# Altium schematic symbol library EVMOMAPL137_Orcad_revg.SCHLIB: 126 symbols
Pins are listed as number, name and electrical type; pins without a type are passive.

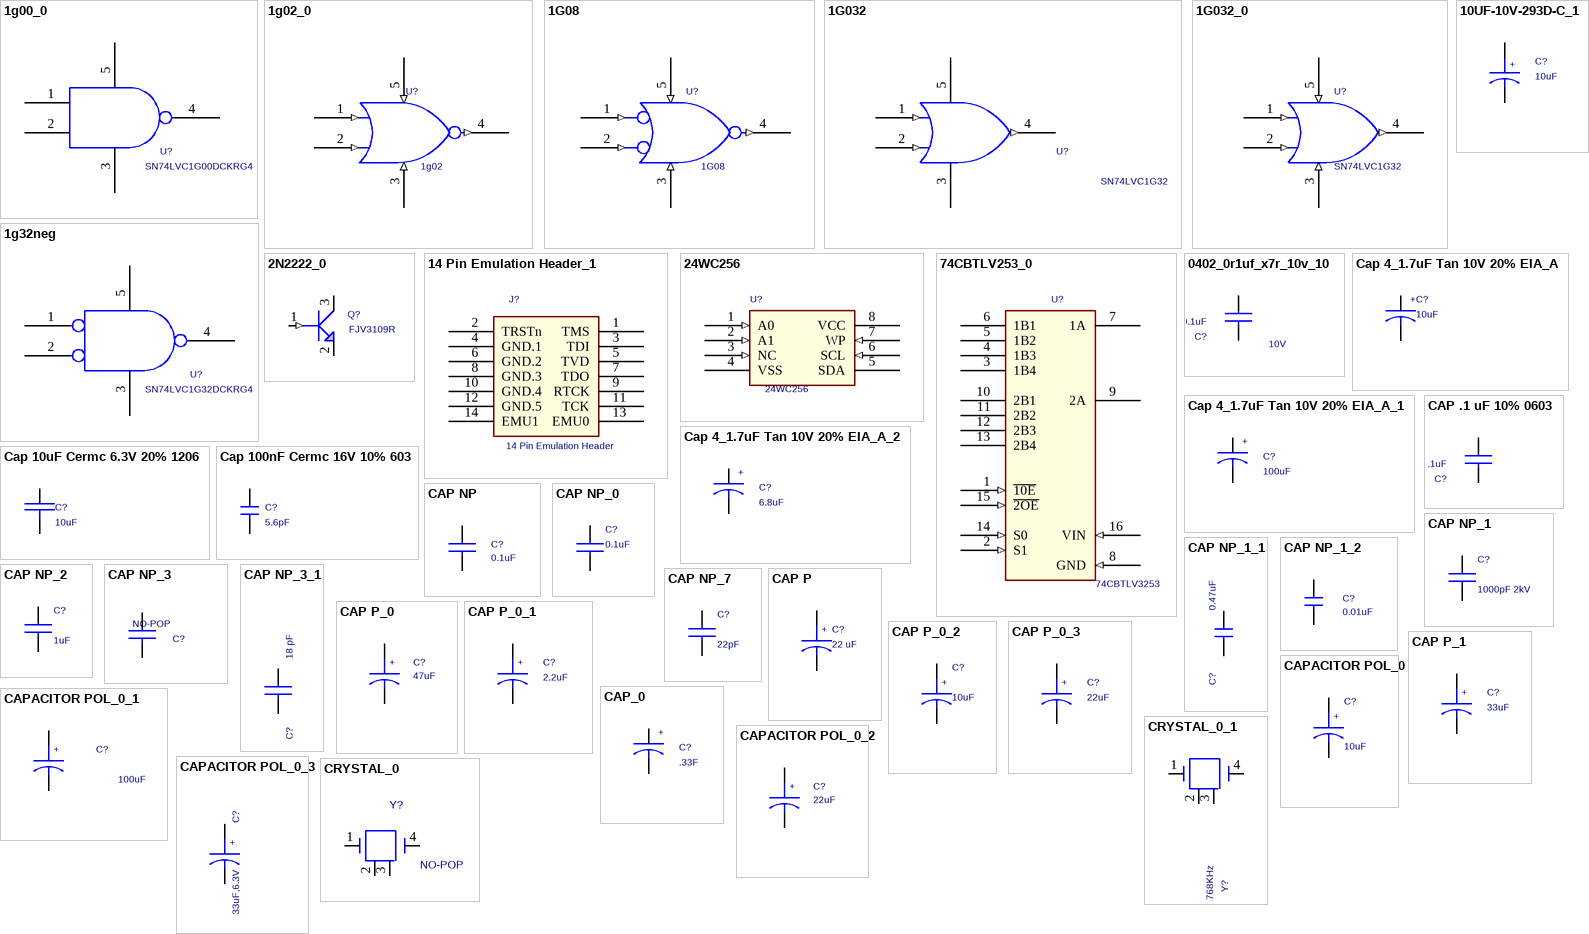
[diagram p0: symbols 1g00_0 to CRYSTAL_0_1]

## 1g00_0
designator U?, comment SN74LVC1G00DCKRG4
Part #: 101057-0001R
footprint dck-5
pins: 1 A, 2 B, 3 GND, 4 Y, 5 VCC

## 1g02_0
designator U?, comment 1g02
Part #: 101057-0002R
footprint dck-5
pins: 1 B (in), 2 A (in), 3 GND (in), 4 Y (out), 5 VCC (in)

## 1G08
designator U?
Part #: 101057-0008R
footprint SO5
footprint dck-5
pins: 1 B (in), 2 A (in), 3 GND (in), 4 Y (out), 5 VCC (in)

## 1G032
designator U?, comment SN74LVC1G32
Part #: 101057-0032R
footprint SO5
footprint dck-5
pins: 1 B (in), 2 A (in), 3 GND (power), 4 Y (out), 5 VCC (power)

## 1G032_0
designator U?, comment SN74LVC1G32
Part #: 101057-0032R
footprint SO5
footprint dck-5
pins: 1 B (in), 2 A (in), 3 GND (in), 4 Y (out), 5 VCC (in)

## 1g32neg
designator U?, comment SN74LVC1G32DCKRG4
Part #: 101057-0032R
footprint dck-5
pins: 1 A, 2 B, 3 GND, 4 Y, 5 VCC

## 2N2222_0
designator Q?, comment FJV3109R
Part #: 102109-0001R; SD PCB Footprint: SOT23-NPN
footprint sot23-28x44
pins: 1 BASE (in), 2 EMITTER, 3 COLLECTOR

## 10UF-10V-293D-C_1
designator C?, comment 10uF
Part #: 101003-0101R; CLASS: DISCRETE; DIS-V: RS; REF DIS-V: 100-2221; MAN: VISHAY-SPRAGUE; DES: 10UF,10V, Size B; PN: 293D106X9016C; RAT: 10V; PUR: SUB; TOL: 10%; TN: 208-0037-000
footprint SM-PCAP-3216
footprint c1206-40x70-POL
pins: 1 P, 2 M
text: +

## 14 Pin Emulation Header_1
designator J?, comment 14 Pin Emulation Header
Part #: 100116-0007R
footprint JUMP2X7-6040
pins: 1 TMS, 2 TRSTn, 3 TDI, 4 GND.1 (power), 5 TVD, 6 GND.2 (power), 7 TDO, 8 GND.3 (power), 9 RTCK, 10 GND.4 (power), 11 TCK, 12 GND.5 (power), 13 EMU0, 14 EMU1

## 24WC256
designator U?
256K-Bit I 2 C Serial CMOS EEPROM; Part #: 102235-0001R; SD PCB Footprint: SO8W
footprint SOIC
footprint so8-25x75-295
pins: 1 A0 (in), 2 A1 (in), 3 NC (in), 4 VSS, 5 SDA, 6 SCL (in), 7 WP (in), 8 VCC

## 74CBTLV253_0
designator U?, comment 74CBTLV3253
Part #: 101433-0001R
footprint tssop16-14x70
pins: 1 ~{10E} (in), 2 S1 (in), 3 1B4, 4 1B3, 5 1B2, 6 1B1, 7 1A, 8 GND (in), 9 2A, 10 2B1, 11 2B2, 12 2B3, 13 2B4, 14 S0 (in), 15 ~{2OE} (in), 16 VIN (in)

## 0402_0r1uf_x7r_10v_10
designator C?, comment 0.1uF  Voltage: 10V
Part #: 101587-1100R; TN: 207-0068-000; Desc: CAP, CER, X7R, 0402, 10V, 10%, 0.1uF
footprint SM-CAP-0402
footprint c402-25
pins: 1, 2

## Cap 4_1.7uF Tan 10V 20% EIA_A
designator C?, comment 10uF
4.7uF Capacitor, Tantalum, 10V, 20%; NCPartnumber: EIA_A; Mfr: Panasonic; PartName: Cap 4.7uF Tan 10V 20% EIA_A; MfrNum: ECS-T1AY475R; Part #: 101003-0101R; Cost10K: 0.257; Cost100: 0.418; Vendor: xxxx; VendorNum: PCS2475CT-ND; SD PCB Footprint: EIA1206
footprint EIA-A
footprint c1206-40x70-POL
pins: 1, 2
text: +

## Cap 4_1.7uF Tan 10V 20% EIA_A_1
designator C?, comment 100uF
4.7uF Capacitor, Tantalum, 10V, 20%; NCPartnumber: EIA_A; Mfr: Panasonic; PartName: Cap 4.7uF Tan 10V 20% EIA_A; MfrNum: ECS-T1AY475R; Part #: 101608-0102R; Cost10K: 0.257; Cost100: 0.418; Vendor: xxxx; VendorNum: PCS2475CT-ND; SD PCB Footprint: EIA1206
footprint EIA-A
footprint c7343-84x118
pins: 1, 2
text: +

## Cap 4_1.7uF Tan 10V 20% EIA_A_2
designator C?, comment 6.8uF
4.7uF Capacitor, Tantalum, 10V, 20%; NCPartnumber: EIA_A; Mfr: Panasonic; PartName: Cap 4.7uF Tan 10V 20% EIA_A; MfrNum: ECS-T1AY475R; Part #: 102359-0680R; Cost10K: 0.257; Cost100: 0.418; Vendor: xxxx; VendorNum: PCS2475CT-ND; SD PCB Footprint: EIA1206
footprint EIA-A
footprint c1206-40x70p
pins: 1, 2
text: +

## Cap 10uF Cermc 6.3V 20% 1206
designator C?, comment 10uF
10uF Capacitor, Ceramic, 6.3V, 20%, 1206; Part #: 101003-0101R; PartName: Cap 10uF Cermc 6.3V 20% 1206; MfrNum: JMK316BJ106ML; Mfr: TAIYO YUDEN; VendorNum: 587-1942-1-ND; Vendor: Digikey; Cost100: 0.26; Cost10K: 0.056; SD PCB Footprint: EIA1206; TI Footprint: c1206-40x70
footprint C1206-40X70
footprint c1206-40x70-POL
pins: 1, 2

## Cap 100nF Cermc 16V 10% 603
designator C?, comment 5.6pF
3pF Capacitor, Ceramic, 16V, 10%, 0402; PartName: Cap 3pF Cermc 16V 10% 402; Part #: 101782-1565R; SD PCB Footprint: EIA0402
footprint 0603
footprint c402-25
pins: 1, 2

## CAP .1 uF 10% 0603
designator C?, comment .1uF
Part #: 101587-1100R; SD PCB Footprint: EIA0603
footprint C0603
footprint c402-25
pins: 1, 2

## CAP NP
designator C?, comment 0.1uF
Part #: 101587-1100R
footprint c402-25
pins: 1, 2

## CAP NP_0
designator C?, comment 0.1uF
Capacitor, Ceramic, 16V, X7R, 10%; Part #: 101587-1100R
footprint c402-25
pins: 1, 2

## CAP NP_1
designator C?, comment 1000pF 2kV
Part #: 101583-1102R
footprint EIA1812
pins: 1, 2

## CAP NP_1_1
designator C?, comment 0.47uF
Part #: 101007-1470R
footprint c603-35x45
pins: 1, 2

## CAP NP_1_2
designator C?, comment 0.01uF
Part #: 101587-1101R
footprint c402-25
pins: 1, 2

## CAP NP_2
designator C?, comment 1uF
Part #: 101587-1100R; SD PCB Footprint: EIA0603
footprint c402-25
pins: 1, 2

## CAP NP_3
designator C?, comment NO-POP
Part # Alt: 101002-1224R; Part #: C0603-NOPOP
footprint c603-35x45
pins: 1, 2

## CAP NP_3_1
designator C?, comment 18 pF
Part #: 101103-1184R; SD PCB Footprint: EIA0603
footprint c603-35x45
pins: 1, 2

## CAP NP_7
designator C?, comment 22pF
Part #: 101002-1224R
footprint c603-35x45
pins: 1, 2

## CAP P
designator C?, comment 22 uF
Part #: 101064-0221R; Spectrum Part#: 101347-0102
footprint C1206-40X70
pins: 1 ANODE, 2 CATHODE
text: +

## CAP P_0
designator C?, comment 47uF
Part #: 100995-0471R; SD PCB Footprint: EIA2816P
footprint c7343-84x118
pins: 1, 2
text: +

## CAP P_0_1
designator C?, comment 2.2uF
Part #: 101007-0220R; SD PCB Footprint: EIA1210
footprint c603-35x45
pins: 1, 2
text: +

## CAP P_0_2
designator C?, comment 10uF
Part #: 101003-0101R; SD PCB Footprint: EIA1210
footprint c1206-40x70-POL
pins: 1, 2
text: +

## CAP P_0_3
designator C?, comment 22uF
Part #: 101064-0221R; SD PCB Footprint: EIA1210
footprint C1206-40X70
pins: 1, 2
text: +

## CAP P_1
designator C?, comment 33uF
Part #: 101953-0331R; Spectrum Part#: 101347-0102
footprint c1206-40x70p
pins: 1 ANODE, 2 CATHODE
text: +

## CAP_0
designator C?, comment .33F
.33F 5.5V Gold SD Horizontal Cap.; MfrNum: EEC-S0HD334H; Mfr: Panasonic; PartName: Cap .33F Gold SD 5.5V 20%; Part #: 101056-0335R; TI Footprint: RAD400-400C; Cost10K: 0.616; Cost100: 1.106; VendorNum: P11064-ND; Vendor: Digikey
footprint EIA_D
footprint c393-6545-H
pins: 1, 2
text: +

## CAPACITOR POL_0
designator C?, comment 10uF
Part #: 101003-0101R
footprint c1206-40x70-POL
pins: 1, 2
text: +

## CAPACITOR POL_0_1
designator C?, comment 100uF
Part #: 101608-0102R
footprint c7343-84x118
pins: 1, 2
text: +

## CAPACITOR POL_0_2
designator C?, comment 22uF
Part #: 101064-0221R
footprint C1206-40X70
pins: 1, 2
text: +

## CAPACITOR POL_0_3
designator C?, comment 33uF,6.3V
Part #: 101953-0331R; Buy: D/K P#335 P2032-ND
footprint c1206-40x70p
pins: 1, 2
text: +

## CRYSTAL_0
designator Y?, comment NO-POP
Part # Alt: 101590-0250R; Part #: NO-POP
footprint xtal2-75x94
pins: 1, 2, 3, 4

## CRYSTAL_0_1
designator Y?, comment 32.768KHz
Part #: 102883-0032R
footprint xtal4-23x47-ssp-t7
pins: 1, 2, 3, 4

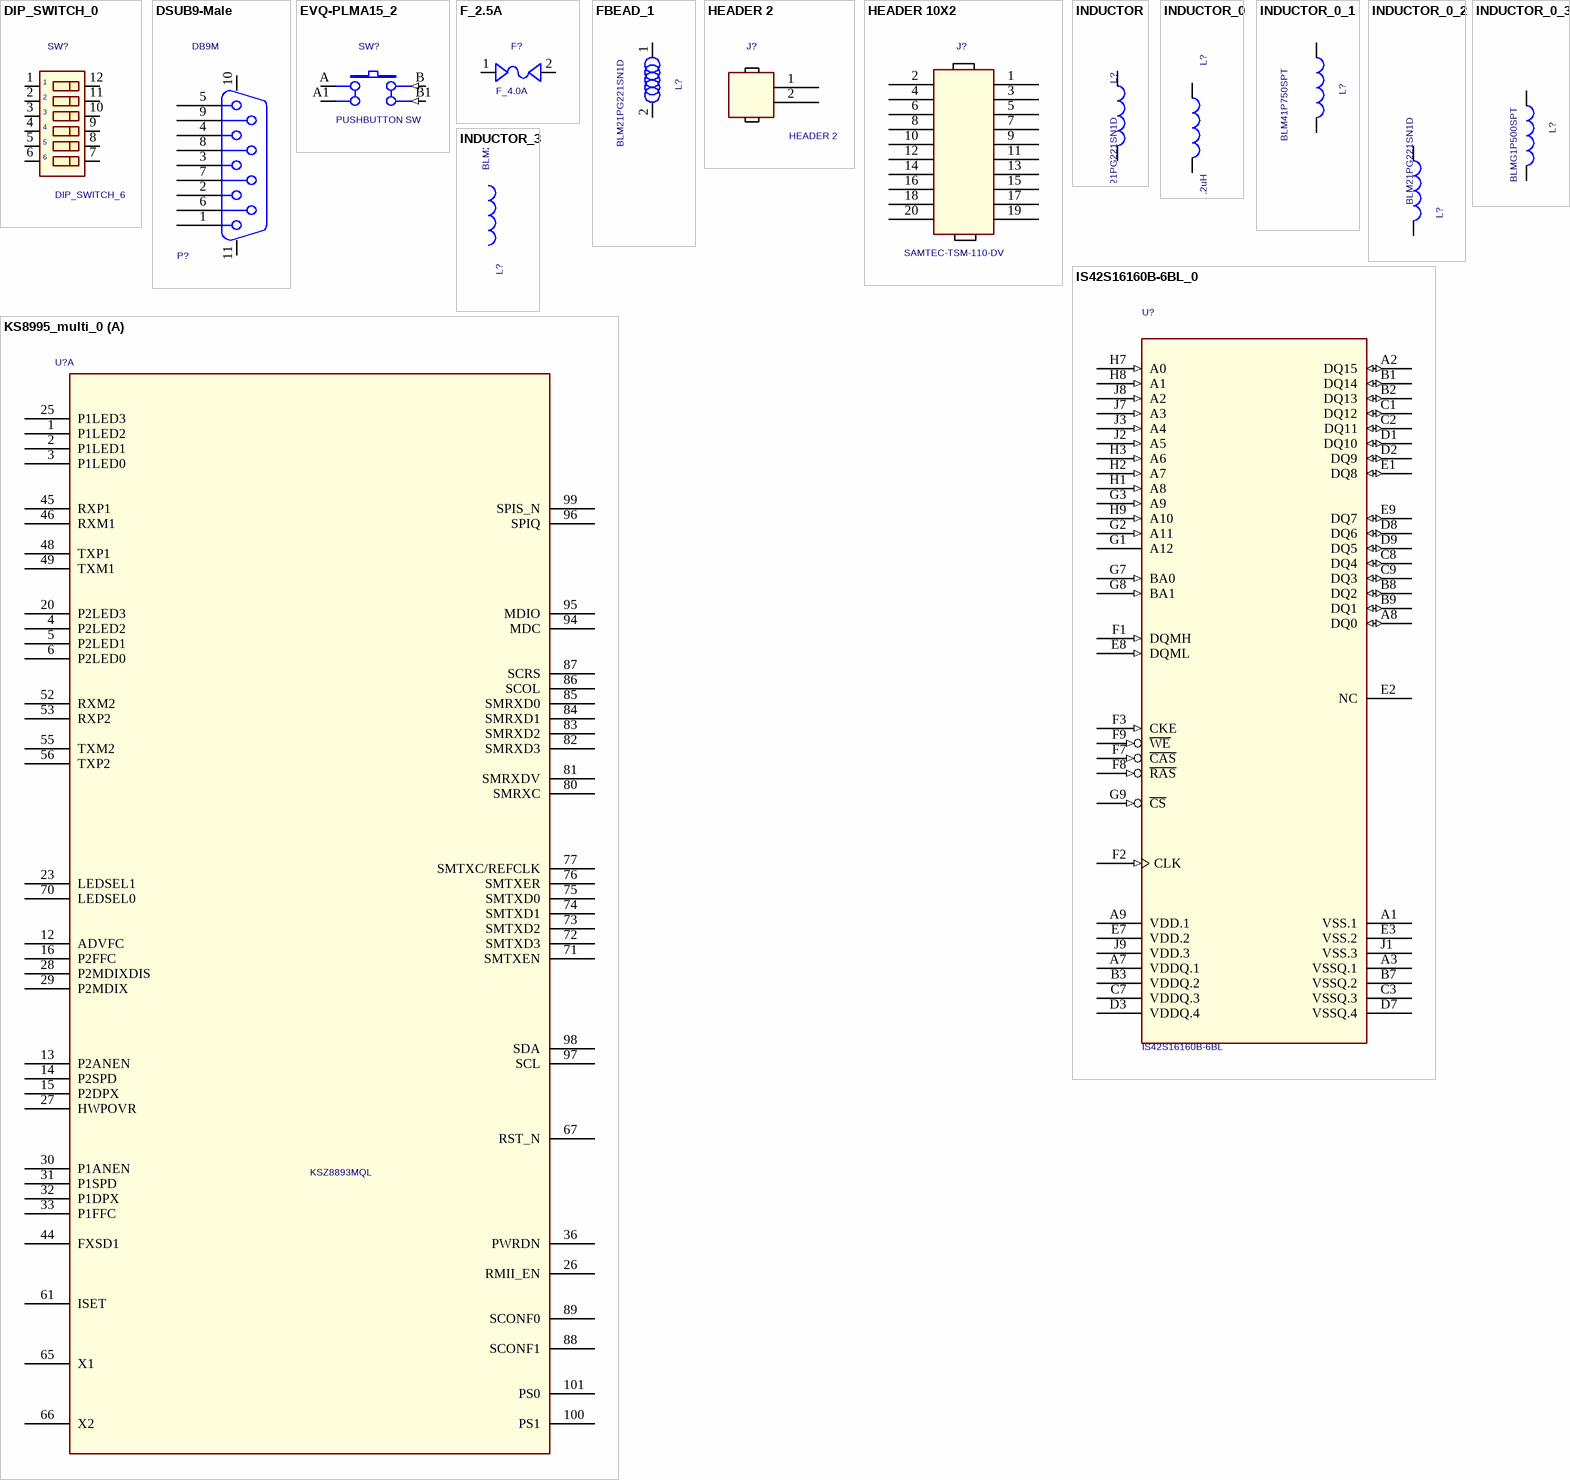
[diagram p1: symbols DIP_SWITCH_0 to KS8995_multi_0]

## DIP_SWITCH_0
designator SW?, comment DIP_SWITCH_6
Part #: 101184-0006R
footprint DIP_SWITCH_10
footprint SW6-30X50-TDA
pins: 1, 2, 3, 4, 5, 6, 7, 8, 9, 10, 11, 12

## DSUB9-Male
designator P?, comment DB9M
Part #: 100558-0009R; ATLStockNo1: 4500.xxxx; SD PCB Footprint: db9mrg
footprint DSUB-9-M
footprint CONN9D-6547-RT-M
pins: 1, 2, 3, 4, 5, 6, 7, 8, 9, 10, 11

## EVQ-PLMA15_2
designator SW?, comment PUSHBUTTON SW
Pushbutton, Momentary, Thru Hole; Part #: 101215-0001R; SD PCB Footprint: 101215
footprint ???
footprint SW-40X126-EVQP1
pins: A, A1, B (in), B1 (in)

## F_2.5A
designator F?, comment F_4.0A
Part #: 100872-0004R; SD PCB Footprint: F-SMF-OMNI-BLOK
footprint SM/F_154
footprint FUSEFOLDER-OMNI-BLOK
pins: 1 P1, 2 P2

## FBEAD_1
designator L?, comment BLM21PG221SN1D
Part Number: IND-FBD-01; Part #: 101228-2201R; Part Type: Inductor
footprint l805-35x60
pins: 1, 2

## HEADER 2
designator J?
Part #: 100115-0002R
footprint JUMP1X2-6040
pins: 1, 2

## HEADER 10X2
designator J?, comment SAMTEC-TSM-110-DV
Part #: 100116-0010R; TN: 224-0183-000
footprint JUMP2X10-6040
pins: 1, 2, 3, 4, 5, 6, 7, 8, 9, 10, 11, 12, 13, 14, 15, 16, 17, 18, 19, 20

## INDUCTOR
designator L?, comment BLM21PG221SN1D
Part #: 101228-2201R
footprint l805-35x60
pins: 1, 2

## INDUCTOR_0
designator L?, comment 2.2uH
Part Number: 134; Part #: 102747-0220R
footprint ind_vlcf
pins: 1, 2

## INDUCTOR_0_1
designator L?, comment BLM41P750SPT
Part Number: 134; Part #: 101126-0001R
footprint FB1806-41X70
pins: 1, 2

## INDUCTOR_0_2
designator L?, comment BLM21PG221SN1D
Part #: 101228-2201R; Part Number: BLM21PG221SN1D
footprint l805-35x60
pins: 1, 2

## INDUCTOR_0_3
designator L?, comment BLMG1P500SPT
Part Number: 134; Part #: 102870-5001R
footprint emi-blm31p-40x70
pins: 1, 2

## INDUCTOR_3
designator L?, comment BLM21PG221SN1
Part #: 101228-2201R
footprint l805-35x60
pins: 1, 2

## IS42S16160B-6BL_0
designator U?, comment IS42S16160B-6BL
Part #: 102799-0006R
footprint bga54-3x9-issi
pins: A1 VSS.1 (power), A2 DQ15 (io), A3 VSSQ.1 (power), A7 VDDQ.1 (power), A8 DQ0 (io), A9 VDD.1 (power), B1 DQ14 (io), B2 DQ13 (io), B3 VDDQ.2 (power), B7 VSSQ.2 (power), B8 DQ2 (io), B9 DQ1 (io), C1 DQ12 (io), C2 DQ11 (io), C3 VSSQ.3 (power), C7 VDDQ.3 (power), C8 DQ4 (io), C9 DQ3 (io), D1 DQ10 (io), D2 DQ9 (io), D3 VDDQ.4 (power), D7 VSSQ.4 (power), D8 DQ6 (io), D9 DQ5 (io), E1 DQ8 (io), E2 NC, E3 VSS.2 (power), E7 VDD.2 (power), E8 DQML (in), E9 DQ7 (io), F1 DQMH (in), F2 CLK (in), F3 CKE (in), F7 ~{CAS} (in), F8 ~{RAS} (in), F9 ~{WE} (in), G1 A12, G2 A11 (in), G3 A9 (in), G7 BA0 (in), G8 BA1 (in), G9 ~{CS} (in), H1 A8 (in), H2 A7 (in), H3 A6 (in), H7 A0 (in), H8 A1 (in), H9 A10 (in), J1 VSS.3 (power), J2 A5 (in), J3 A4 (in), J7 A3 (in), J8 A2 (in), J9 VDD.3 (power)

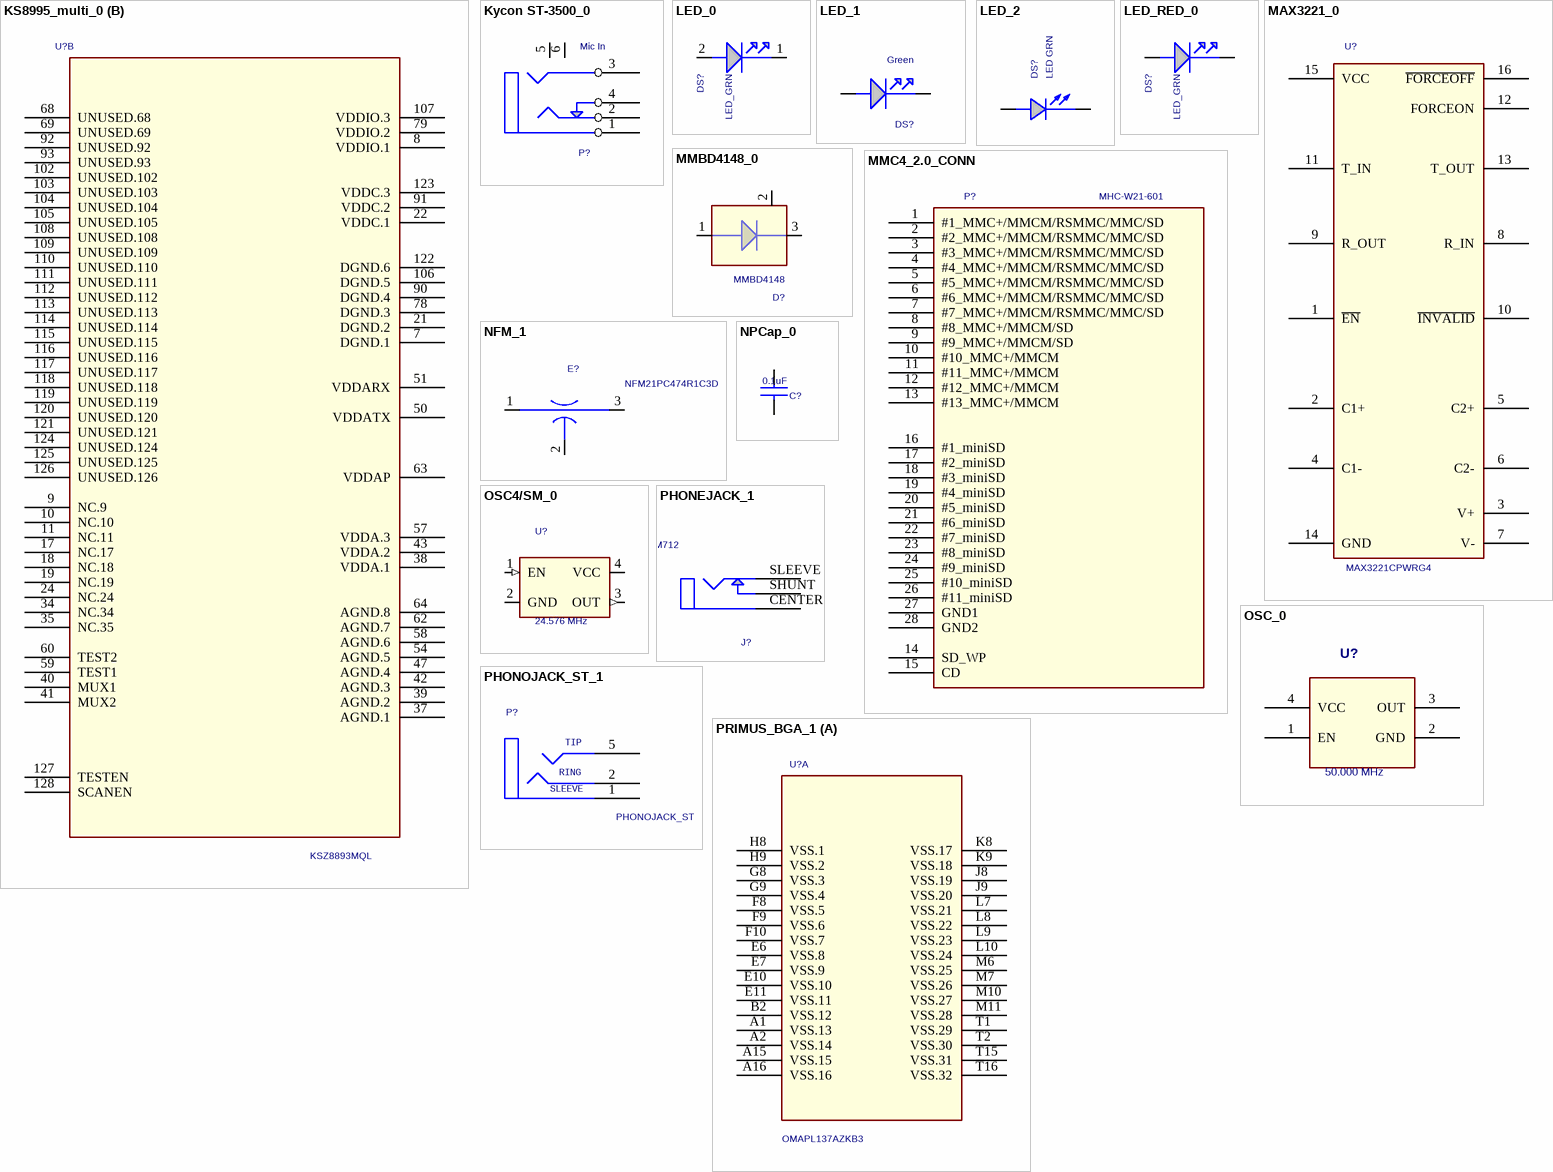
[diagram p2: symbols KS8995_multi_0 to PRIMUS_BGA_1]

## KS8995_multi_0
designator U?, comment KSZ8893MQL
Part #: 102795-0001R
footprint pqfp128rec-12x70
part A pins: 1 P1LED2, 2 P1LED1, 3 P1LED0, 4 P2LED2, 5 P2LED1, 6 P2LED0, 12 ADVFC, 13 P2ANEN, 14 P2SPD, 15 P2DPX, 16 P2FFC, 20 P2LED3, 23 LEDSEL1, 25 P1LED3, 26 RMII_EN, 27 HWPOVR, 28 P2MDIXDIS, 29 P2MDIX, 30 P1ANEN, 31 P1SPD, 32 P1DPX, 33 P1FFC, 36 PWRDN, 44 FXSD1, 45 RXP1, 46 RXM1, 48 TXP1, 49 TXM1, 52 RXM2, 53 RXP2, 55 TXM2, 56 TXP2, 61 ISET, 65 X1, 66 X2, 67 RST_N, 70 LEDSEL0, 71 SMTXEN, 72 SMTXD3, 73 SMTXD2, 74 SMTXD1, 75 SMTXD0, 76 SMTXER, 77 SMTXC/REFCLK, 80 SMRXC, 81 SMRXDV, 82 SMRXD3, 83 SMRXD2, 84 SMRXD1, 85 SMRXD0, 86 SCOL, 87 SCRS, 88 SCONF1, 89 SCONF0, 94 MDC, 95 MDIO, 96 SPIQ, 97 SCL, 98 SDA, 99 SPIS_N, 100 PS1, 101 PS0
part B pins: 7 DGND.1, 8 VDDIO.1, 9 NC.9, 10 NC.10, 11 NC.11, 17 NC.17, 18 NC.18, 19 NC.19, 21 DGND.2, 22 VDDC.1, 24 NC.24, 34 NC.34, 35 NC.35, 37 AGND.1, 38 VDDA.1, 39 AGND.2, 40 MUX1, 41 MUX2, 42 AGND.3, 43 VDDA.2, 47 AGND.4, 50 VDDATX, 51 VDDARX, 54 AGND.5, 57 VDDA.3, 58 AGND.6, 59 TEST1, 60 TEST2, 62 AGND.7, 63 VDDAP, 64 AGND.8, 68 UNUSED.68, 69 UNUSED.69, 78 DGND.3, 79 VDDIO.2, 90 DGND.4, 91 VDDC.2, 92 UNUSED.92, 93 UNUSED.93, 102 UNUSED.102, 103 UNUSED.103, 104 UNUSED.104, 105 UNUSED.105, 106 DGND.5, 107 VDDIO.3, 108 UNUSED.108, 109 UNUSED.109, 110 UNUSED.110, 111 UNUSED.111, 112 UNUSED.112, 113 UNUSED.113, 114 UNUSED.114, 115 UNUSED.115, 116 UNUSED.116, 117 UNUSED.117, 118 UNUSED.118, 119 UNUSED.119, 120 UNUSED.120, 121 UNUSED.121, 122 DGND.6, 123 VDDC.3, 124 UNUSED.124, 125 UNUSED.125, 126 UNUSED.126, 127 TESTEN, 128 SCANEN

## Kycon ST-3500_0
designator P?, comment Mic In
Part #: 101012-0001R
footprint st_3500
pins: 1 SHIELD, 2 TIP, 3 RING, 4 TIPB, 5 MH1, 6 MH2

## LED_0
designator DS?, comment LED_GRN
LEDs (green); Part #: 100823-0001R; Mfgr Nbr: LTST-C150GKT; Mfgr: Lite-on
footprint led1206-59x59
pins: 1 CATHODE, 2 ANODE

## LED_1
designator DS?, comment Green
LED, Green, SMT; Part #: 100823-0001R
footprint CHIP 1206
footprint led1206-59x59
pins: 1 CATHODE, 2 ANODE

## LED_2
designator DS?, comment LED GRN
Part #: 100823-0001R; SD PCB Footprint: EIA1206D
footprint led1206-59x59
pins: 1 CATHODE, 2 ANODE

## LED_RED_0
designator DS?, comment LED_GRN
LEDs (green); Part #: 100823-0001R; Mfgr: Lite-on; Mfgr Nbr: LTST-C150GKT
footprint led1206-59x59
pins: 1 cathode, 2 ANODE

## MAX3221_0
designator U?, comment MAX3221CPWRG4
Part #: 101691-0001R
footprint pw16-14x70
pins: 1 ~{EN}, 2 C1+, 3 V+, 4 C1-, 5 C2+, 6 C2-, 7 V-, 8 R_IN, 9 R_OUT, 10 ~{INVALID}, 11 T_IN, 12 FORCEON, 13 T_OUT, 14 GND (power), 15 VCC (power), 16 ~{FORCEOFF}

## MMBD4148_0
designator D?, comment MMBD4148
Part #: 100185-0001R
footprint SOT23-3
pins: 1 ANODE, 2, 3 CATHODE

## MMC4_2.0_CONN
designator P?, comment MHC-W21-601
Manufacturer: OMRON; Part #: 102710-0001R; ATLStockNo1: 4500.0144; TN: 224-0332-000
footprint SM-CON-MOLEX-54794-0918
footprint CONN-MMC-MHC-W21-601
pins: 1 #1_MMC+/MMCM/RSMMC/MMC/SD, 2 #2_MMC+/MMCM/RSMMC/MMC/SD, 3 #3_MMC+/MMCM/RSMMC/MMC/SD, 4 #4_MMC+/MMCM/RSMMC/MMC/SD, 5 #5_MMC+/MMCM/RSMMC/MMC/SD, 6 #6_MMC+/MMCM/RSMMC/MMC/SD, 7 #7_MMC+/MMCM/RSMMC/MMC/SD, 8 #8_MMC+/MMCM/SD, 9 #9_MMC+/MMCM/SD, 10 #10_MMC+/MMCM, 11 #11_MMC+/MMCM, 12 #12_MMC+/MMCM, 13 #13_MMC+/MMCM, 14 SD_WP, 15 CD, 16 #1_miniSD, 17 #2_miniSD, 18 #3_miniSD, 19 #4_miniSD, 20 #5_miniSD, 21 #6_miniSD, 22 #7_miniSD, 23 #8_miniSD, 24 #9_miniSD, 25 #10_miniSD, 26 #11_miniSD, 27 GND1, 28 GND2

## NFM_1
designator E?, comment NFM21PC474R1C3D
Part #: 102569-1470R
footprint emi-NFM21p
pins: 1, 2, 3

## NPCap_0
designator C?, comment 0.1uF
Part #: 101587-1100R; SD PCB Footprint: EIA0603
footprint 1206
footprint c402-25
pins: 1, 2

## OSC4/SM_0
designator U?, comment 24.576 MHz
Part #: 102201-2457R; SD PCB Footprint: CB3LV
footprint xtal4-70x78-ctx
pins: 1 EN (in), 2 GND (power), 3 OUT (out), 4 VCC (power)

## OSC_0
designator U?, comment 50.000 MHz
Part Number: OSC-66M-01; Part #: 100983-0050R; Part Type: Oscillator
footprint OSC4-71X79
pins: 1 EN, 2 GND, 3 OUT, 4 VCC

## PHONEJACK_1
designator J?, comment RASM712
Part #: 101238-0001R
footprint PWR3-RASM712
pins: CENTER, SHUNT, SLEEVE

## PHONOJACK_ST_1
designator P?, comment PHONOJACK_ST
footprint cui3533-10070
pins: 1, 2, 5
text: TIP; RING; SLEEVE

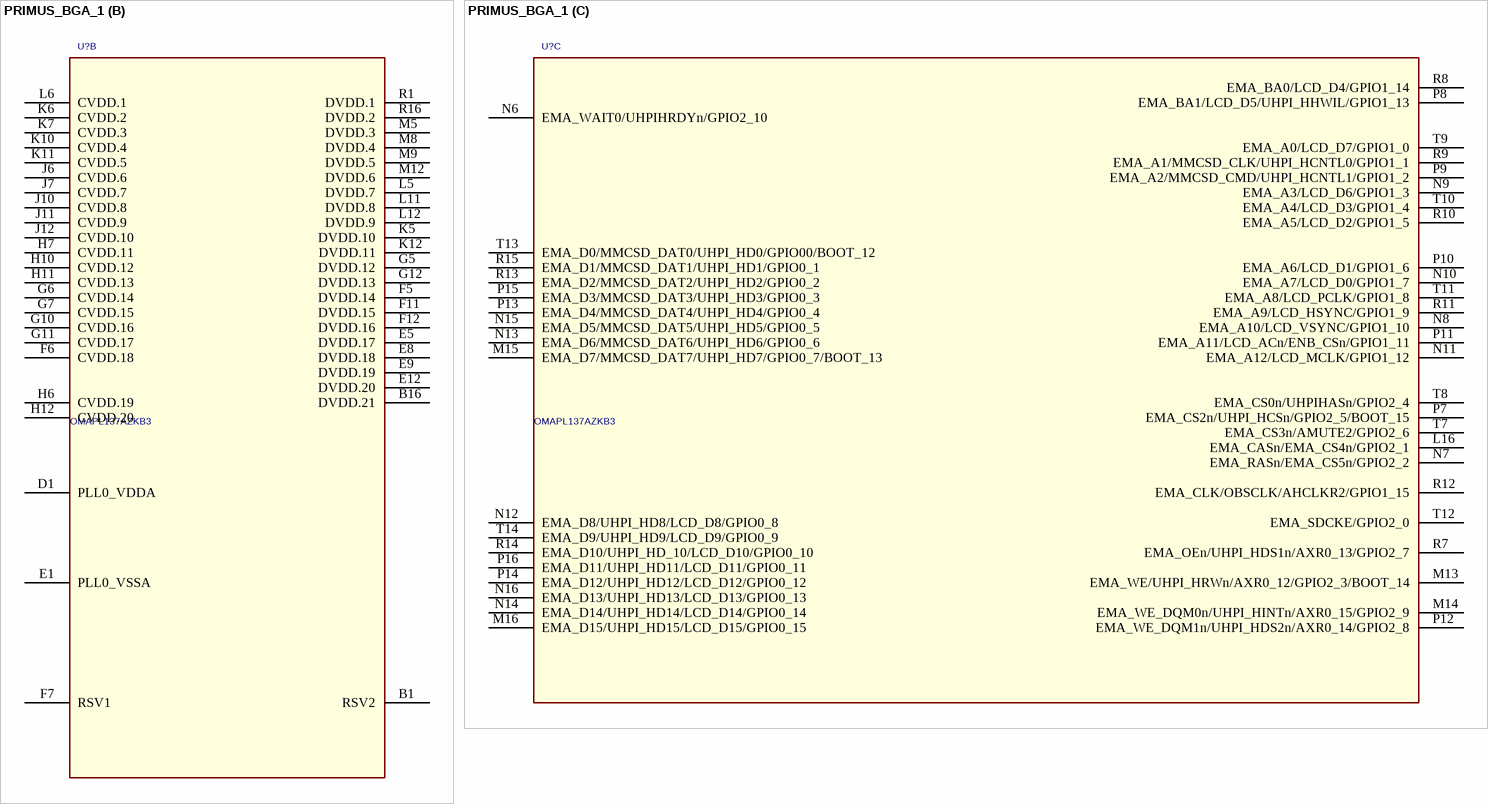
[diagram p3: symbol PRIMUS_BGA_1]

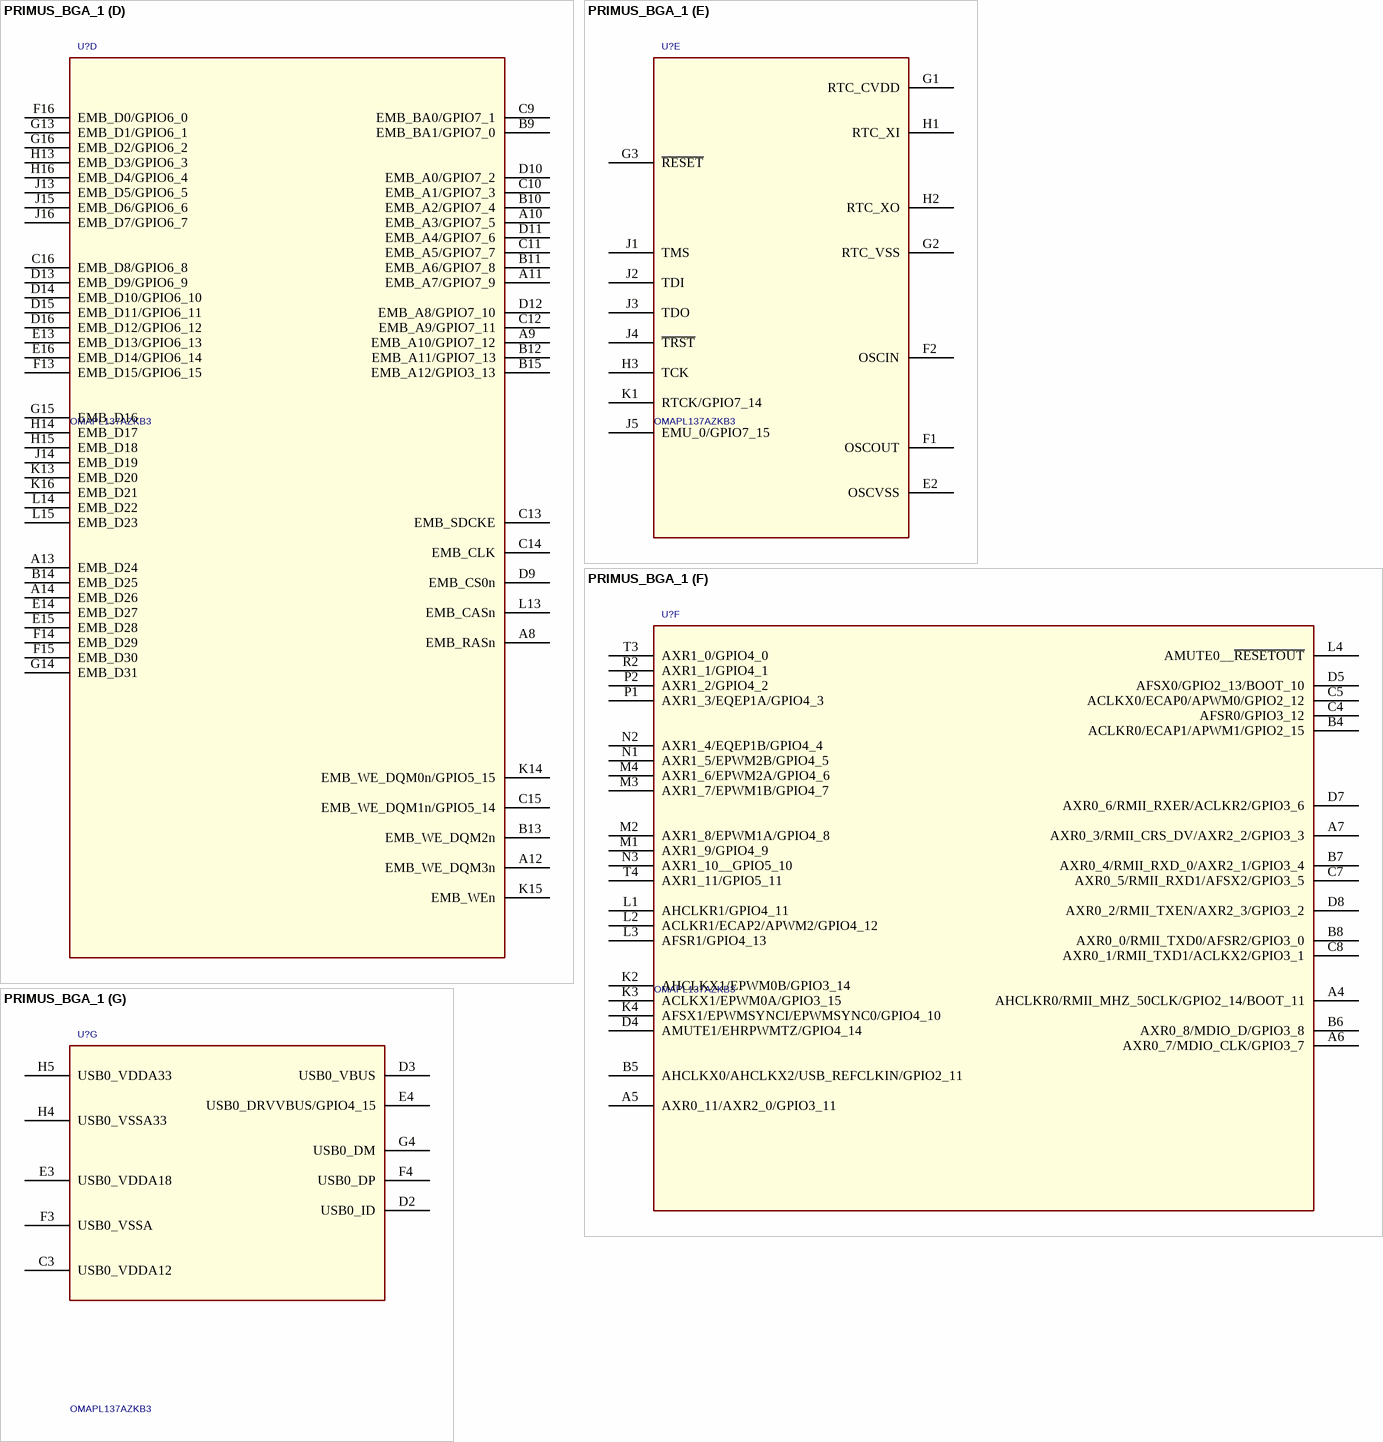
[diagram p4: symbol PRIMUS_BGA_1]

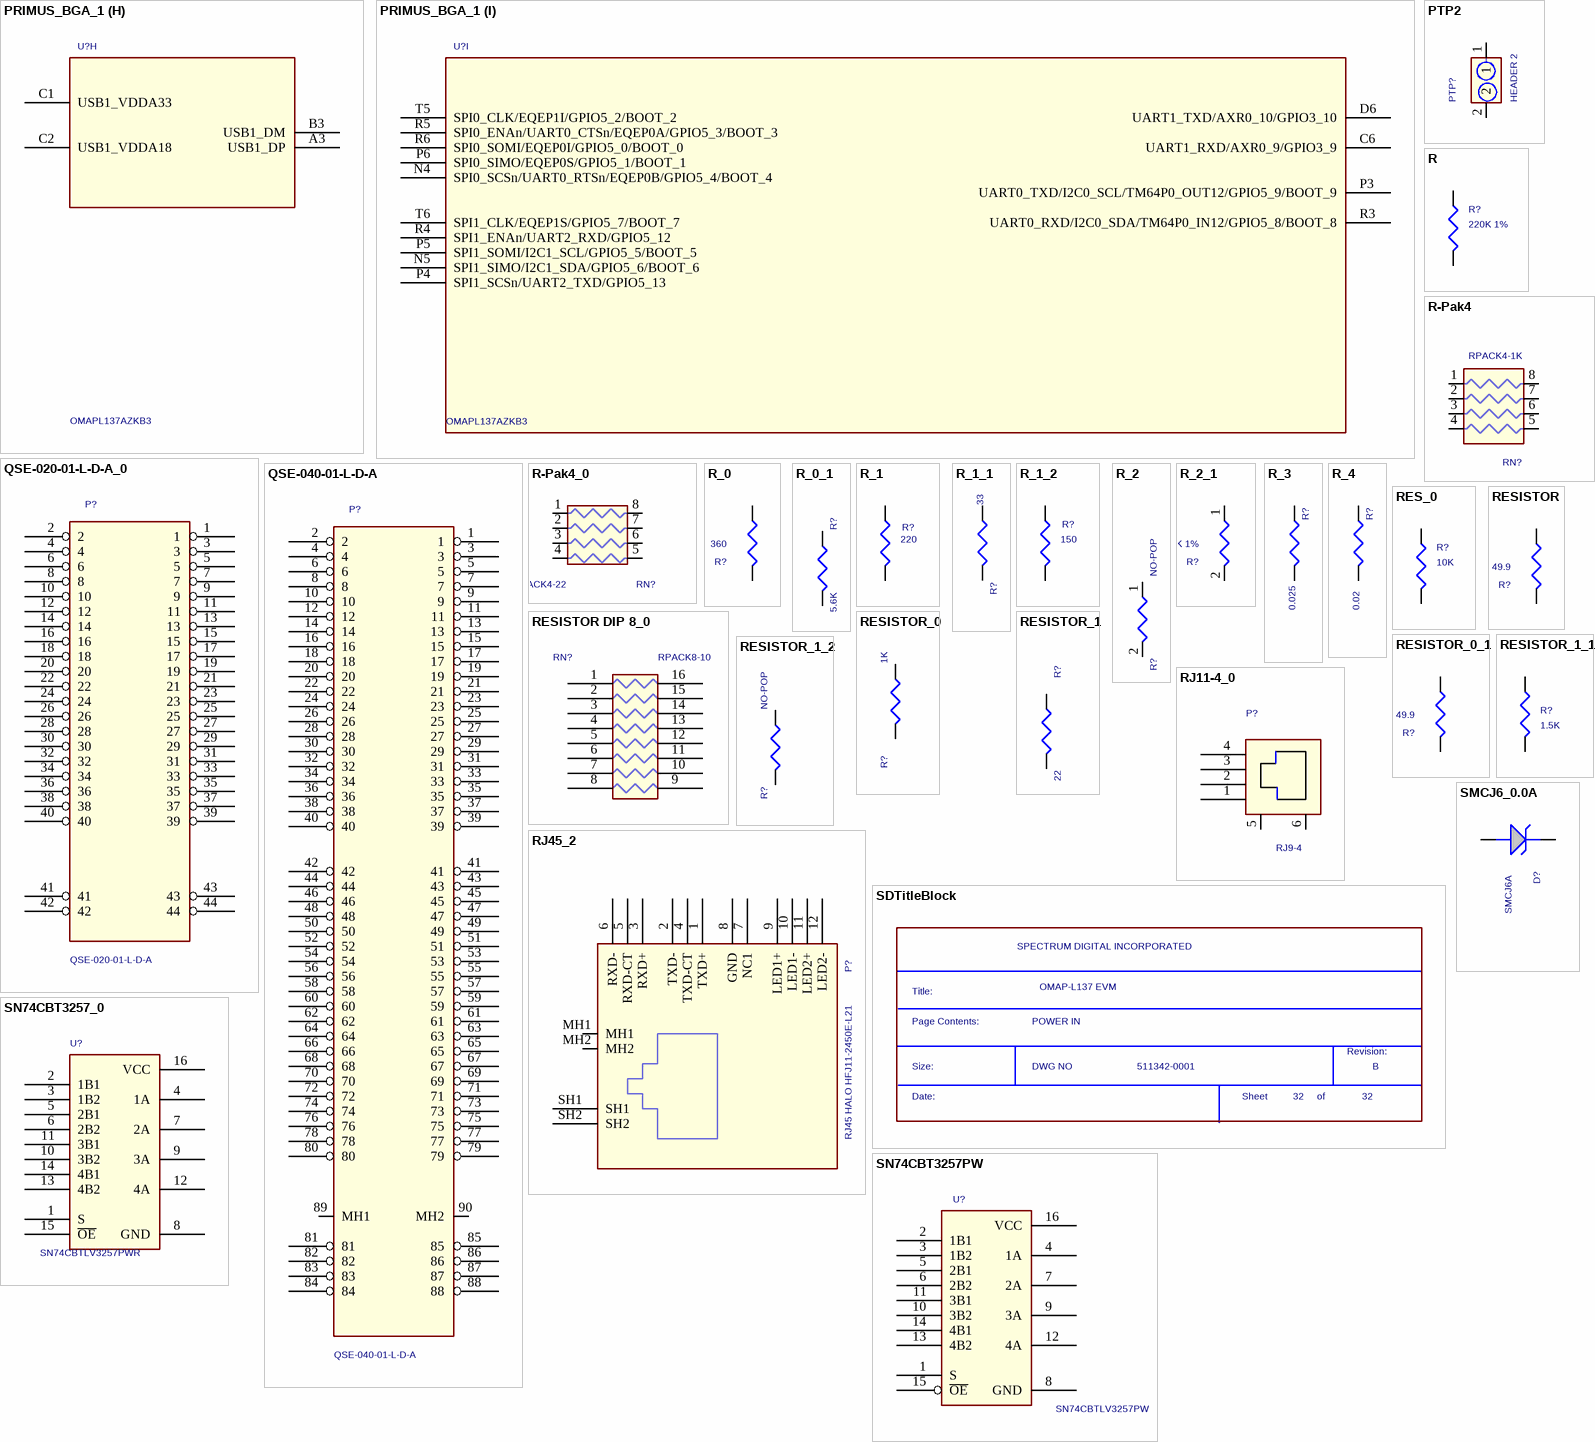
[diagram p5: symbols PRIMUS_BGA_1 to SN74CBT3257PW]

## PRIMUS_BGA_1
designator U?, comment OMAPL137AZKB3
Part #: 102772-0001; SWAP_INFO: (S1+S2+S3+S4+S5+S6+S7+S8+S9); SPLIT_INST: TRUE
footprint skt256-6064
part A pins: A1 VSS.13 (power), A2 VSS.14 (power), A15 VSS.15 (power), A16 VSS.16 (power), B2 VSS.12 (power), E6 VSS.8 (power), E7 VSS.9 (power), E10 VSS.10 (power), E11 VSS.11 (power), F8 VSS.5 (power), F9 VSS.6 (power), F10 VSS.7 (power), G8 VSS.3 (power), G9 VSS.4 (power), H8 VSS.1 (power), H9 VSS.2 (power), J8 VSS.19 (power), J9 VSS.20 (power), K8 VSS.17 (power), K9 VSS.18 (power), L7 VSS.21 (power), L8 VSS.22 (power), L9 VSS.23 (power), L10 VSS.24 (power), M6 VSS.25 (power), M7 VSS.26 (power), M10 VSS.27 (power), M11 VSS.28 (power), T1 VSS.29 (power), T2 VSS.30 (power), T15 VSS.31 (power), T16 VSS.32 (power)
part B pins: B1 RSV2 (power), B16 DVDD.21 (power), D1 PLL0_VDDA (power), E1 PLL0_VSSA (power), E5 DVDD.17 (power), E8 DVDD.18 (power), E9 DVDD.19 (power), E12 DVDD.20 (power), F5 DVDD.14 (power), F6 CVDD.18 (power), F7 RSV1, F11 DVDD.15 (power), F12 DVDD.16 (power), G5 DVDD.12 (power), G6 CVDD.14 (power), G7 CVDD.15 (power), G10 CVDD.16 (power), G11 CVDD.17 (power), G12 DVDD.13 (power), H6 CVDD.19 (power), H7 CVDD.11 (power), H10 CVDD.12 (power), H11 CVDD.13 (power), H12 CVDD.20 (power), J6 CVDD.6 (power), J7 CVDD.7 (power), J10 CVDD.8 (power), J11 CVDD.9 (power), J12 CVDD.10 (power), K5 DVDD.10 (power), K6 CVDD.2 (power), K7 CVDD.3 (power), K10 CVDD.4 (power), K11 CVDD.5 (power), K12 DVDD.11 (power), L5 DVDD.7 (power), L6 CVDD.1 (power), L11 DVDD.8 (power), L12 DVDD.9 (power), M5 DVDD.3 (power), M8 DVDD.4 (power), M9 DVDD.5 (power), M12 DVDD.6 (power), R1 DVDD.1 (power), R16 DVDD.2 (power)
part C pins: L16 EMA_CASn/EMA_CS4n/GPIO2_1, M13 EMA_WE/UHPI_HRWn/AXR0_12/GPIO2_3/BOOT_14, M14 EMA_WE_DQM0n/UHPI_HINTn/AXR0_15/GPIO2_9, M15 EMA_D7/MMCSD_DAT7/UHPI_HD7/GPIO0_7/BOOT_13, M16 EMA_D15/UHPI_HD15/LCD_D15/GPIO0_15, N6 EMA_WAIT0/UHPIHRDYn/GPIO2_10, N7 EMA_RASn/EMA_CS5n/GPIO2_2, N8 EMA_A10/LCD_VSYNC/GPIO1_10, N9 EMA_A3/LCD_D6/GPIO1_3, N10 EMA_A7/LCD_D0/GPIO1_7, N11 EMA_A12/LCD_MCLK/GPIO1_12, N12 EMA_D8/UHPI_HD8/LCD_D8/GPIO0_8, N13 EMA_D6/MMCSD_DAT6/UHPI_HD6/GPIO0_6, N14 EMA_D14/UHPI_HD14/LCD_D14/GPIO0_14, N15 EMA_D5/MMCSD_DAT5/UHPI_HD5/GPIO0_5, N16 EMA_D13/UHPI_HD13/LCD_D13/GPIO0_13, P7 EMA_CS2n/UHPI_HCSn/GPIO2_5/BOOT_15, P8 EMA_BA1/LCD_D5/UHPI_HHWIL/GPIO1_13, P9 EMA_A2/MMCSD_CMD/UHPI_HCNTL1/GPIO1_2, P10 EMA_A6/LCD_D1/GPIO1_6, P11 EMA_A11/LCD_ACn/ENB_CSn/GPIO1_11, P12 EMA_WE_DQM1n/UHPI_HDS2n/AXR0_14/GPIO2_8, P13 EMA_D4/MMCSD_DAT4/UHPI_HD4/GPIO0_4, P14 EMA_D12/UHPI_HD12/LCD_D12/GPIO0_12, P15 EMA_D3/MMCSD_DAT3/UHPI_HD3/GPIO0_3, P16 EMA_D11/UHPI_HD11/LCD_D11/GPIO0_11, R7 EMA_OEn/UHPI_HDS1n/AXR0_13/GPIO2_7, R8 EMA_BA0/LCD_D4/GPIO1_14, R9 EMA_A1/MMCSD_CLK/UHPI_HCNTL0/GPIO1_1, R10 EMA_A5/LCD_D2/GPIO1_5, R11 EMA_A9/LCD_HSYNC/GPIO1_9, R12 EMA_CLK/OBSCLK/AHCLKR2/GPIO1_15, R13 EMA_D2/MMCSD_DAT2/UHPI_HD2/GPIO0_2, R14 EMA_D10/UHPI_HD_10/LCD_D10/GPIO0_10, R15 EMA_D1/MMCSD_DAT1/UHPI_HD1/GPIO0_1, T7 EMA_CS3n/AMUTE2/GPIO2_6, T8 EMA_CS0n/UHPIHASn/GPIO2_4, T9 EMA_A0/LCD_D7/GPIO1_0, T10 EMA_A4/LCD_D3/GPIO1_4, T11 EMA_A8/LCD_PCLK/GPIO1_8, T12 EMA_SDCKE/GPIO2_0, T13 EMA_D0/MMCSD_DAT0/UHPI_HD0/GPIO00/BOOT_12, T14 EMA_D9/UHPI_HD9/LCD_D9/GPIO0_9
part D pins: A8 EMB_RASn, A9 EMB_A10/GPIO7_12, A10 EMB_A3/GPIO7_5, A11 EMB_A7/GPIO7_9, A12 EMB_WE_DQM3n, A13 EMB_D24, A14 EMB_D26, B9 EMB_BA1/GPIO7_0, B10 EMB_A2/GPIO7_4, B11 EMB_A6/GPIO7_8, B12 EMB_A11/GPIO7_13, B13 EMB_WE_DQM2n, B14 EMB_D25, B15 EMB_A12/GPIO3_13, C9 EMB_BA0/GPIO7_1, C10 EMB_A1/GPIO7_3, C11 EMB_A5/GPIO7_7, C12 EMB_A9/GPIO7_11, C13 EMB_SDCKE, C14 EMB_CLK, C15 EMB_WE_DQM1n/GPIO5_14, C16 EMB_D8/GPIO6_8, D9 EMB_CS0n, D10 EMB_A0/GPIO7_2, D11 EMB_A4/GPIO7_6, D12 EMB_A8/GPIO7_10, D13 EMB_D9/GPIO6_9, D14 EMB_D10/GPIO6_10, D15 EMB_D11/GPIO6_11, D16 EMB_D12/GPIO6_12, E13 EMB_D13/GPIO6_13, E14 EMB_D27, E15 EMB_D28, E16 EMB_D14/GPIO6_14, F13 EMB_D15/GPIO6_15, F14 EMB_D29, F15 EMB_D30, F16 EMB_D0/GPIO6_0, G13 EMB_D1/GPIO6_1, G14 EMB_D31, G15 EMB_D16, G16 EMB_D2/GPIO6_2, H13 EMB_D3/GPIO6_3, H14 EMB_D17, H15 EMB_D18, H16 EMB_D4/GPIO6_4, J13 EMB_D5/GPIO6_5, J14 EMB_D19, J15 EMB_D6/GPIO6_6, J16 EMB_D7/GPIO6_7, K13 EMB_D20, K14 EMB_WE_DQM0n/GPIO5_15, K15 EMB_WEn, K16 EMB_D21, L13 EMB_CASn, L14 EMB_D22, L15 EMB_D23
part E pins: E2 OSCVSS (power), F1 OSCOUT, F2 OSCIN, G1 RTC_CVDD (power), G2 RTC_VSS (power), G3 ~{RESET}, H1 RTC_XI, H2 RTC_XO, H3 TCK, J1 TMS, J2 TDI, J3 TDO, J4 ~{TRST}, J5 EMU_0/GPIO7_15, K1 RTCK/GPIO7_14
part F pins: A4 AHCLKR0/RMII_MHZ_50CLK/GPIO2_14/BOOT_11, A5 AXR0_11/AXR2_0/GPIO3_11, A6 AXR0_7/MDIO_CLK/GPIO3_7, A7 AXR0_3/RMII_CRS_DV/AXR2_2/GPIO3_3, B4 ACLKR0/ECAP1/APWM1/GPIO2_15, B5 AHCLKX0/AHCLKX2/USB_REFCLKIN/GPIO2_11, B6 AXR0_8/MDIO_D/GPIO3_8, B7 AXR0_4/RMII_RXD_0/AXR2_1/GPIO3_4, B8 AXR0_0/RMII_TXD0/AFSR2/GPIO3_0, C4 AFSR0/GPIO3_12, C5 ACLKX0/ECAP0/APWM0/GPIO2_12, C7 AXR0_5/RMII_RXD1/AFSX2/GPIO3_5, C8 AXR0_1/RMII_TXD1/ACLKX2/GPIO3_1, D4 AMUTE1/EHRPWMTZ/GPIO4_14, D5 AFSX0/GPIO2_13/BOOT_10, D7 AXR0_6/RMII_RXER/ACLKR2/GPIO3_6, D8 AXR0_2/RMII_TXEN/AXR2_3/GPIO3_2, K2 AHCLKX1/EPWM0B/GPIO3_14, K3 ACLKX1/EPWM0A/GPIO3_15, K4 AFSX1/EPWMSYNCI/EPWMSYNC0/GPIO4_10, L1 AHCLKR1/GPIO4_11, L2 ACLKR1/ECAP2/APWM2/GPIO4_12, L3 AFSR1/GPIO4_13, L4 AMUTE0__~{RESETOUT}, M1 AXR1_9/GPIO4_9, M2 AXR1_8/EPWM1A/GPIO4_8, M3 AXR1_7/EPWM1B/GPIO4_7, M4 AXR1_6/EPWM2A/GPIO4_6, N1 AXR1_5/EPWM2B/GPIO4_5, N2 AXR1_4/EQEP1B/GPIO4_4, N3 AXR1_10__GPIO5_10, P1 AXR1_3/EQEP1A/GPIO4_3, P2 AXR1_2/GPIO4_2, R2 AXR1_1/GPIO4_1, T3 AXR1_0/GPIO4_0, T4 AXR1_11/GPIO5_11
part G pins: C3 USB0_VDDA12, D2 USB0_ID, D3 USB0_VBUS, E3 USB0_VDDA18, E4 USB0_DRVVBUS/GPIO4_15, F3 USB0_VSSA, F4 USB0_DP, G4 USB0_DM, H4 USB0_VSSA33, H5 USB0_VDDA33
part H pins: A3 USB1_DP, B3 USB1_DM, C1 USB1_VDDA33, C2 USB1_VDDA18
part I pins: C6 UART1_RXD/AXR0_9/GPIO3_9, D6 UART1_TXD/AXR0_10/GPIO3_10, N4 SPI0_SCSn/UART0_RTSn/EQEP0B/GPIO5_4/BOOT_4, N5 SPI1_SIMO/I2C1_SDA/GPIO5_6/BOOT_6, P3 UART0_TXD/I2C0_SCL/TM64P0_OUT12/GPIO5_9/BOOT_9, P4 SPI1_SCSn/UART2_TXD/GPIO5_13, P5 SPI1_SOMI/I2C1_SCL/GPIO5_5/BOOT_5, P6 SPI0_SIMO/EQEP0S/GPIO5_1/BOOT_1, R3 UART0_RXD/I2C0_SDA/TM64P0_IN12/GPIO5_8/BOOT_8, R4 SPI1_ENAn/UART2_RXD/GPIO5_12, R5 SPI0_ENAn/UART0_CTSn/EQEP0A/GPIO5_3/BOOT_3, R6 SPI0_SOMI/EQEP0I/GPIO5_0/BOOT_0, T5 SPI0_CLK/EQEP1I/GPIO5_2/BOOT_2, T6 SPI1_CLK/EQEP1S/GPIO5_7/BOOT_7

## PTP2
designator PTP?, comment HEADER 2
Single Line Header 2pin Tin; NCPartnumber: 2H0000; MfrNum: PTC02SAAN; Mfr: Sullins; Cost10K: 0.252; Vendor: Digikey; Cost100: 0.252; PartName: HEADER2Pin
footprint JUMP1X2-6040
pins: 1, 2

## QSE-020-01-L-D-A_0
designator P?, comment QSE-020-01-L-D-A
Part #: 101881-0020R
footprint qse_020
pins: 1, 2, 3, 4, 5, 6, 7, 8, 9, 10, 11, 12, 13, 14, 15, 16, 17, 18, 19, 20, 21, 22, 23, 24, 25, 26, 27, 28, 29, 30, 31, 32, 33, 34, 35, 36, 37, 38, 39, 40, 41, 42, 43, 44

## QSE-040-01-L-D-A
designator P?
Part #: 101881-0040R
footprint qse_040
pins: 1, 2, 3, 4, 5, 6, 7, 8, 9, 10, 11, 12, 13, 14, 15, 16, 17, 18, 19, 20, 21, 22, 23, 24, 25, 26, 27, 28, 29, 30, 31, 32, 33, 34, 35, 36, 37, 38, 39, 40, 41, 42, 43, 44, 45, 46, 47, 48, 49, 50, 51, 52, 53, 54, 55, 56, 57, 58, 59, 60, 61, 62, 63, 64, 65, 66, 67, 68, 69, 70, 71, 72, 73, 74, 75, 76, 77, 78, 79, 80, 81, 82, 83, 84, 85, 86, 87, 88, 89 MH1, 90 MH2

## R
designator R?, comment 220K 1%
Part #: 100642-2214R
footprint r603-35x45
pins: 1, 2

## R-Pak4
designator RN?, comment RPACK4-1K
Part #: 101327-1002R
footprint rpak8-10x25-28v
pins: 1 R1A, 2 R2A, 3 R3A, 4 R4A, 5 R4B, 6 R3B, 7 R2B, 8 R1B

## R-Pak4_0
designator RN?, comment RPACK4-22
Part #: 101327-2200R
footprint rpak8-10x25-28v
pins: 1 R1A, 2 R2A, 3 R3A, 4 R4A, 5 R4B, 6 R3B, 7 R2B, 8 R1B

## R_0
designator R?, comment 360
Part #: 101370-3601R
footprint r402-25
pins: 1, 2

## R_0_1
designator R?, comment 5.6K
Part #: 100687-5602R
footprint r603-35x45
pins: 1, 2

## R_1
designator R?, comment 220
Resistor, 5%, 1/10W; Part #: 101370-2201R; SD PCB Footprint: EIA0603
footprint r402-25
pins: 1, 2

## R_1_1
designator R?, comment 33
Resistor, 5%, 1/16W; Part #: 101370-3300R
footprint r402-25
pins: 1, 2

## R_1_2
designator R?, comment 150
Resistor, 5%, 1/16W; Part #: 100687-1501R
footprint r603-35x45
pins: 1, 2

## R_2
designator R?, comment NO-POP
Part #: R2512-NOPOP; SD PCB Footprint: EIA0603
footprint R2512
pins: 1, 2

## R_2_1
designator R?, comment 10K 1%
Part #: 102145-1003R; SD PCB Footprint: EIA0603
footprint r402-25
pins: 1, 2

## R_3
designator R?, comment 0.025
Part #: 100830-0025R
footprint r2512
pins: 1, 2

## R_4
designator R?, comment 0.02
Part #: 102598-0002R
footprint r1206-40x70
pins: 1, 2

## RES_0
designator R?, comment 10K
Part #: 101370-1003R; CLASS: DISCRETE; TN: 272-0029-000; TOL: 1%; RATING: 0.063W
footprint SM-RES-0402
footprint r402-25
pins: 1 P1, 2 P2

## RESISTOR
designator R?, comment 49.9
Part #: 100642-4990R
footprint r603-35x45
pins: 1, 2

## RESISTOR DIP 8_0
designator RN?, comment RPACK8-10
Part #: 101069-1000R
footprint rpak16-10x25-2hv
pins: 1, 2, 3, 4, 5, 6, 7, 8, 9, 10, 11, 12, 13, 14, 15, 16

## RESISTOR_0
designator R?, comment 1K
Part #: 101370-1002R
footprint r402-25
pins: 1, 2

## RESISTOR_0_1
designator R?, comment 49.9
Part #: 100642-4990R
footprint r603-35x45
pins: 1, 2

## RESISTOR_1
designator R?, comment 22
Part #: 101370-2200R
footprint r402-25
pins: 1, 2

## RESISTOR_1_1
designator R?, comment 1.5K
Part #: 100642-1502R
footprint r603-35x45
pins: 1, 2

## RESISTOR_1_2
designator R?, comment NO-POP
Part #: R0402-NOPOP
footprint r402-25
pins: 1, 2

## RJ11-4_0
designator P?, comment RJ9-4
Part #: 100057-0001
footprint molex-52018
pins: 1, 2, 3, 4, 5, 6

## RJ45_2
designator P?, comment RJ45 HALO HFJ11-2450E-L21
RJ45 Jack with 2 LEDs shielded; NCPartnumber: 2J0005; Mfr: Amphenol; PartName: RJ45w2LEDs; Part #: 102166-0001R; Cost100: 2.31; Vendor: Newark; Cost10K: 1.87; MfrNum: RJHS-5385
footprint RJ45AMP556591-1
footprint conn8-rt-rj45-sh-halo
pins: 1 TXD+, 2 TXD-, 3 RXD+, 4 TXD-CT, 5 RXD-CT, 6 RXD-, 7 NC1, 8 GND, 9 LED1+, 10 LED1-, 11 LED2+, 12 LED2-, MH1, MH2, SH1, SH2

## SDTitleBlock
designator *?  Page Contents:: POWER IN  RevCode: B  Title: OMAP-L137 EVM  OrgName: SPECTRUM DIGITAL INCORPORATED  Doc: 511342-0001  Page Number: 32  (hidden comment: SDTitleBlock)  (graphical)
Page Count: 32
text: Title:; Page Contents:; Revision:; Size:; DWG NO; Date:; Sheet; of

## SMCJ6_0.0A
designator D?, comment SMCJ6A
Part #: 101808-0006R; SD PCB Footprint: SMC
footprint SMC-DO-214AB
footprint SMC-80X128
pins: 1 Cathode, 2 Anode

## SN74CBT3257_0
designator U?, comment SN74CBTLV3257PWR
IC, Quad 2-1 Multiplexer; Part #: 101670-0001R
footprint TSSOP 16
footprint tssop16-14x70
pins: 1 S, 2 1B1, 3 1B2, 4 1A, 5 2B1, 6 2B2, 7 2A, 8 GND, 9 3A, 10 3B2, 11 3B1, 12 4A, 13 4B2, 14 4B1, 15 ~{OE}, 16 VCC

## SN74CBT3257PW
designator U?, comment SN74CBTLV3257PW
IC, Quad 2-1 Multiplexer; Part #: 101670-0001R; Mfg: TI
footprint TSSOP-16
footprint tssop16-14x70
pins: 1 S, 2 1B1, 3 1B2, 4 1A, 5 2B1, 6 2B2, 7 2A, 8 GND, 9 3A, 10 3B2, 11 3B1, 12 4A, 13 4B2, 14 4B1, 15 ~{OE}, 16 VCC

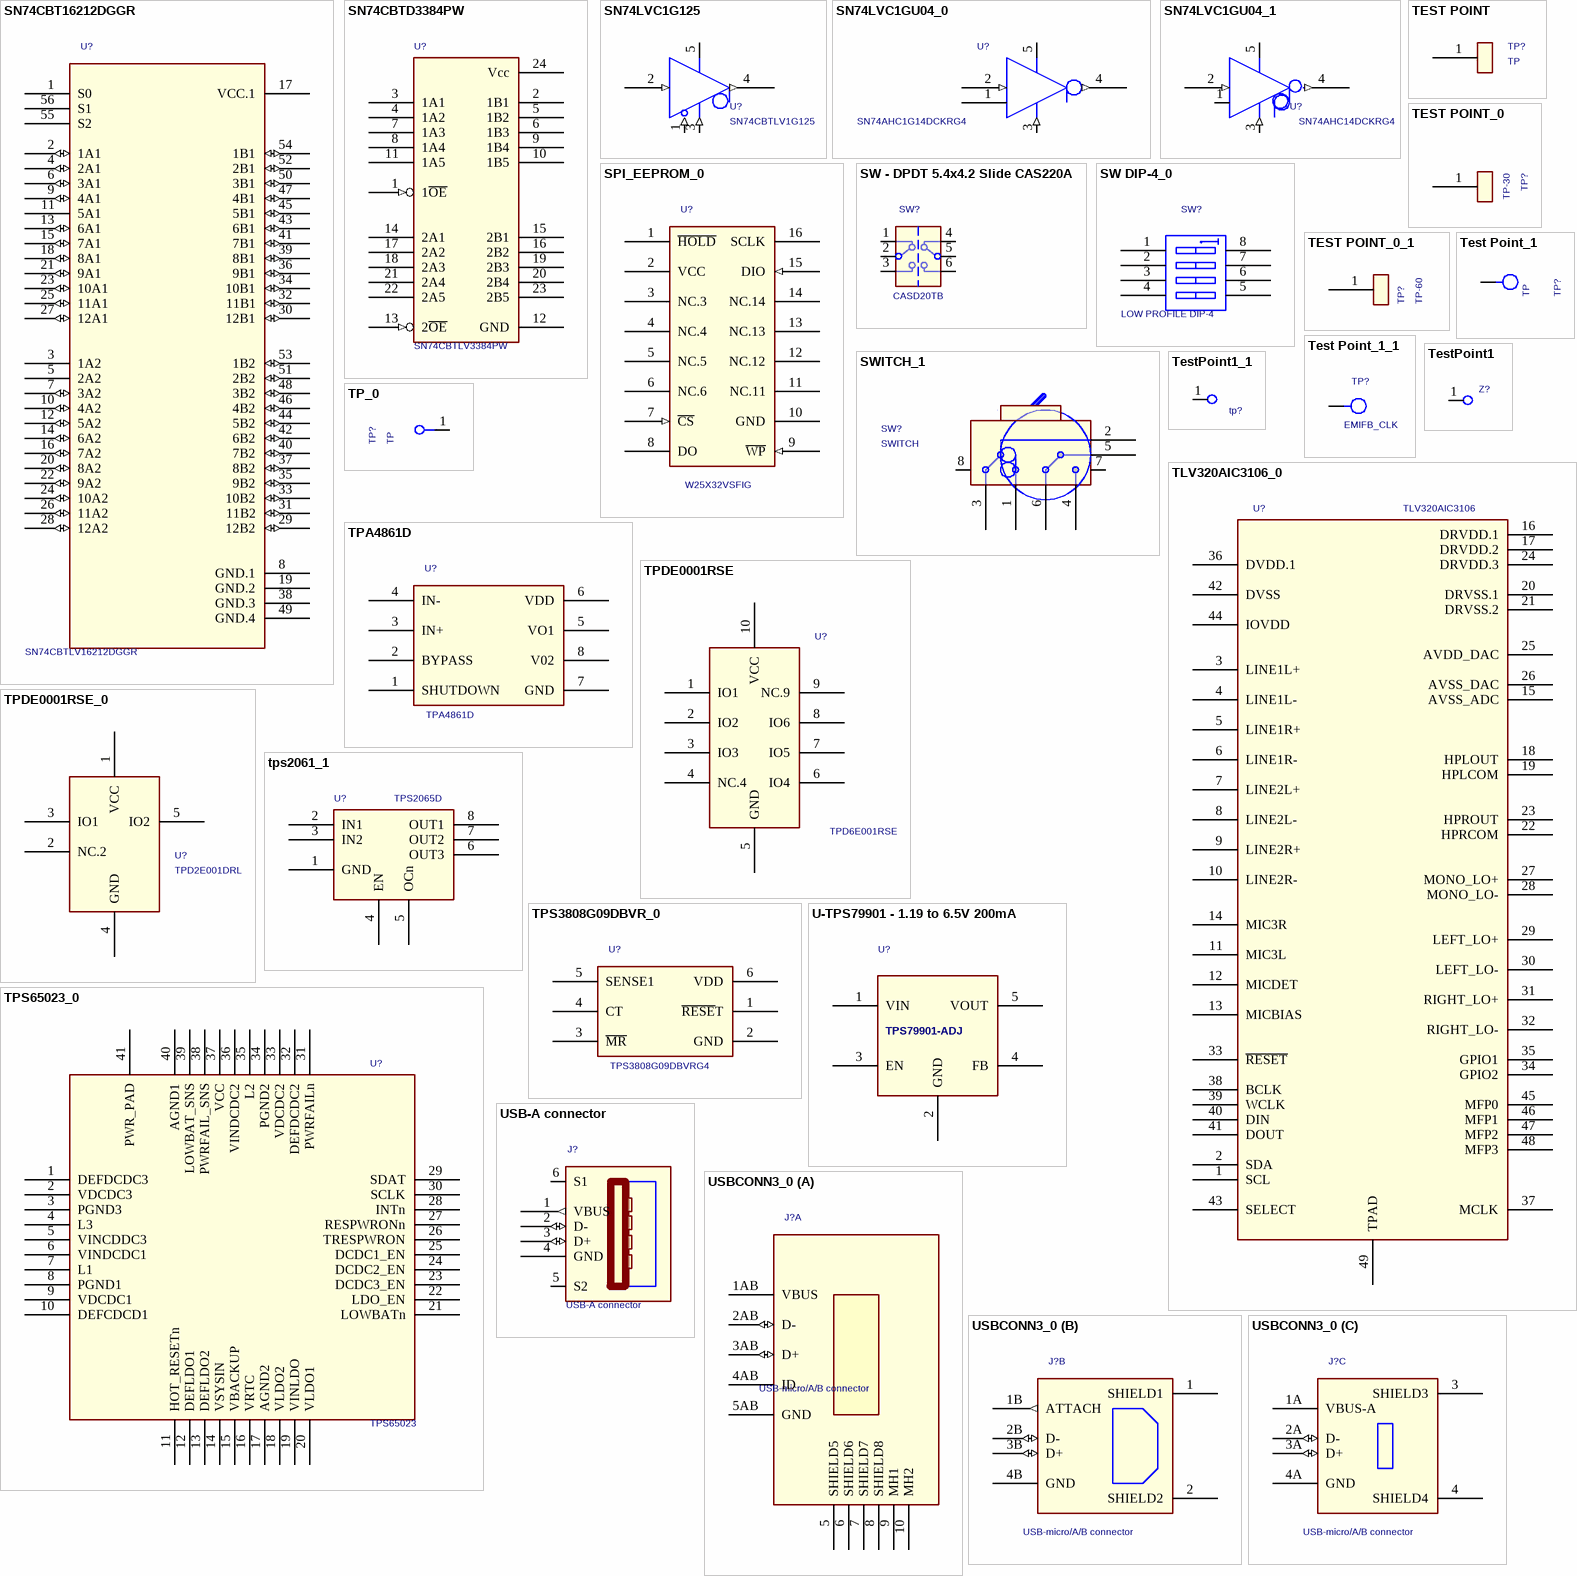
[diagram p6: symbols SN74CBT16212DGGR to USBCONN3_0]

## SN74CBT16212DGGR
designator U?, comment SN74CBTLV16212DGGR
Part #: 102693-0001R; SD PCB Footprint: TSSOP56
footprint 56 pin TSSOP
footprint dgg56-12x80
pins: 1 S0, 2 1A1 (io), 3 1A2, 4 2A1 (io), 5 2A2, 6 3A1 (io), 7 3A2 (io), 8 GND.1, 9 4A1 (io), 10 4A2 (io), 11 5A1, 12 5A2 (io), 13 6A1 (io), 14 6A2 (io), 15 7A1 (io), 16 7A2 (io), 17 VCC.1 (power), 18 8A1 (io), 19 GND.2, 20 8A2 (io), 21 9A1 (io), 22 9A2 (io), 23 10A1 (io), 24 10A2 (io), 25 11A1 (io), 26 11A2 (io), 27 12A1 (io), 28 12A2 (io), 29 12B2 (io), 30 12B1 (io), 31 11B2 (io), 32 11B1 (io), 33 10B2 (io), 34 10B1 (io), 35 9B2 (io), 36 9B1 (io), 37 8B2 (io), 38 GND.3, 39 8B1 (io), 40 7B2 (io), 41 7B1 (io), 42 6B2 (io), 43 6B1 (io), 44 5B2 (io), 45 5B1 (io), 46 4B2 (io), 47 4B1 (io), 48 3B2 (io), 49 GND.4, 50 3B1 (io), 51 2B2 (io), 52 2B1 (io), 53 1B2 (io), 54 1B1 (io), 55 S2, 56 S1

## SN74CBTD3384PW
designator U?, comment SN74CBTLV3384PW
IC, Quad 2-to-1 Mux with Level Conversion; Part #: 101679-0001R; Mfg: TI
footprint TSSOP-24
footprint pw24-14x70
pins: 1 1~{OE} (in), 2 1B1, 3 1A1, 4 1A2, 5 1B2, 6 1B3, 7 1A3, 8 1A4, 9 1B4, 10 1B5, 11 1A5, 12 GND (power), 13 2~{OE} (in), 14 2A1, 15 2B1, 16 2B2, 17 2A2, 18 2A3, 19 2B3, 20 2B4, 21 2A4, 22 2A5, 23 2B5, 24 Vcc (power)

## SN74LVC1G125
designator U?, comment SN74CBTLV1G125
Part #: 101689-0125R
footprint DCK
footprint dck-5
pins: 1 OE (in), 2 I (in), 3 GND (in), 4 O (out), 5 VCC

## SN74LVC1GU04_0
designator U?, comment SN74AHC1G14DCKRG4
Single Schmitt-Trigger Inverter Gate; Part #: 101027-0001R
footprint DCK
footprint dck-5
pins: 1, 2 I (in), 3 GND (in), 4 O (out), 5 VCC

## SN74LVC1GU04_1
designator U?, comment SN74AHC14DCKRG4
Spectrum Part#: 101027-0125; Part #: 101027-0001R
footprint DCK
footprint dck-5
pins: 1 NC1, 2 I (in), 3 GND (in), 4 O (out), 5 VCC

## SPI_EEPROM_0
designator U?, comment W25X32VSFIG
Part #: 102801-0001R
footprint so16-25x75-300
pins: 1 ~{HOLD}, 2 VCC (power), 3 NC.3, 4 NC.4, 5 NC.5, 6 NC.6, 7 ~{CS} (in), 8 DO, 9 ~{WP} (in), 10 GND (power), 11 NC.11, 12 NC.12, 13 NC.13, 14 NC.14, 15 DIO (in), 16 SCLK

## SW - DPDT 5.4x4.2 Slide CAS220A
designator SW?, comment CASD20TB
SLIDE Switch, DPDT,  100mA, J HOOK; MfrNum: CAS-220A; Mfr: BC Components; Part #: 102181-0002R; Vendor: Digi_Key; VendorNum: CAS220JCT-ND; SD PCB Footprint: CAS-220A
footprint sw6-40x67_gw
pins: 1, 2, 3, 4, 5, 6

## SW DIP-4_0
designator SW?, comment LOW PROFILE DIP-4
Part #: 100584-0004R
footprint sw4-44x96-cts
pins: 1 A1, 2 A2, 3 A3, 4 A4, 5 B4, 6 B3, 7 B2, 8 B1

## SWITCH_1
designator SW?, comment SWITCH
Part #: 100601-0001; SD PCB Footprint: DPDTSW
footprint TGL_2X3
footprint SW-7201-DPDT-10073
pins: 1 NO1, 2 COMMON1, 3 NC1, 4 NO2, 5 COMMON2, 6 NC2, 7 MOUNT, 8 MOUNT2

## TEST POINT
designator TP?, comment TP
footprint tp1-6040
pins: 1

## TEST POINT_0
designator TP?, comment TP-30
Part #: SMT-TP030; SD PCB Footprint: CON1
footprint CON1
footprint tp30
pins: 1

## TEST POINT_0_1
designator TP?, comment TP-60
Part #: 100115-0001R; SD PCB Footprint: CON1
footprint CON1
footprint tp1-6040
pins: 1

## Test Point_1
designator TP?, comment TP
TEST POINT 0.100; PartName: HEADER 1; Part #: 100115-0001R; Vendor: Digikey; Vendor Nbr: S2111-36-ND; TI Footprint: tp1-6040; Cost10K: 0.018; Cost100: 0.031; VendorNum: S2011-36-ND; Assy_NO-POP: Do Not Populate
footprint tp1-6040
pins: 1 PIN

## Test Point_1_1
designator TP?, comment EMIFB_CLK
Test Point; PartName: HEADER 1; Vendor: Digi-Key; Vendor Nbr: S2111-36-ND
footprint tp1-6040
footprint tp1-50x25
pins: 1 PIN

## TestPoint1
designator Z?, comment MNTHOLE  (value not drawn)
ATLStockNo1: none
footprint TP1_0-2_0
footprint mhp125-250
pins: 1

## TestPoint1_1
designator tp?, comment TestPoint1  (value not drawn)
Part #: 100115-0001R; ATLStockNo1: none
footprint TP1_0-2_0
footprint tp1-6040
pins: 1

## TLV320AIC3106_0
designator U?, comment TLV320AIC3106
Part #: 102800-0001R
footprint rgz48-11x34
pins: 1 SCL, 2 SDA, 3 LINE1L+, 4 LINE1L-, 5 LINE1R+, 6 LINE1R-, 7 LINE2L+, 8 LINE2L-, 9 LINE2R+, 10 LINE2R-, 11 MIC3L, 12 MICDET, 13 MICBIAS, 14 MIC3R, 15 AVSS_ADC, 16 DRVDD.1, 17 DRVDD.2, 18 HPLOUT, 19 HPLCOM, 20 DRVSS.1, 21 DRVSS.2, 22 HPRCOM, 23 HPROUT, 24 DRVDD.3, 25 AVDD_DAC, 26 AVSS_DAC, 27 MONO_LO+, 28 MONO_LO-, 29 LEFT_LO+, 30 LEFT_LO-, 31 RIGHT_LO+, 32 RIGHT_LO-, 33 ~{RESET}, 34 GPIO2, 35 GPIO1, 36 DVDD.1, 37 MCLK, 38 BCLK, 39 WCLK, 40 DIN, 41 DOUT, 42 DVSS, 43 SELECT, 44 IOVDD, 45 MFP0, 46 MFP1, 47 MFP2, 48 MFP3, 49 TPAD

## TP_0
designator TP?, comment TP
footprint tp1-6040
pins: 1

## TPA4861D
designator U?
Part #: 100962-0001R
footprint so8-25x75
pins: 1 SHUTDOWN, 2 BYPASS, 3 IN+, 4 IN-, 5 VO1, 6 VDD, 7 GND, 8 V02

## TPDE0001RSE
designator U?, comment TPD6E001RSE
Part #: 102566-0001R
footprint rse10
pins: 1 IO1, 2 IO2, 3 IO3, 4 NC.4, 5 GND, 6 IO4, 7 IO5, 8 IO6, 9 NC.9, 10 VCC

## TPDE0001RSE_0
designator U?, comment TPD2E001DRL
Part #: 102728-0001R
footprint drl5-12x40
pins: 1 VCC, 2 NC.2, 3 IO1, 4 GND, 5 IO2

## tps2061_1
designator U?, comment TPS2065D
Part #: 102810-0001R
footprint so8-25x75
pins: 1 GND, 2 IN1, 3 IN2, 4 EN, 5 OCn, 6 OUT3, 7 OUT2, 8 OUT1

## TPS3808G09DBVR_0
designator U?, comment TPS3808G09DBVRG4
Part #: 102020-0009R
footprint DBV6-27X39-6
pins: 1 ~{RESE}T, 2 GND (power), 3 ~{MR}, 4 CT, 5 SENSE1, 6 VDD (power)

## TPS65023_0
designator U?, comment TPS65023
Part #: 102746-0001R
footprint rsb40-9x39
pins: 1 DEFDCDC3, 2 VDCDC3, 3 PGND3, 4 L3, 5 VINCDDC3, 6 VINDCDC1, 7 L1, 8 PGND1, 9 VDCDC1, 10 DEFCDCD1, 11 HOT_RESETn, 12 DEFLDO1, 13 DEFLDO2, 14 VSYSIN, 15 VBACKUP, 16 VRTC, 17 AGND2, 18 VLDO2, 19 VINLDO, 20 VLDO1, 21 LOWBATn, 22 LDO_EN, 23 DCDC3_EN, 24 DCDC2_EN, 25 DCDC1_EN, 26 TRESPWRON, 27 RESPWRONn, 28 INTn, 29 SDAT, 30 SCLK, 31 PWRFAILn, 32 DEFDCDC2, 33 VDCDC2, 34 PGND2, 35 L2, 36 VINDCDC2, 37 VCC, 38 PWRFAIL_SNS, 39 LOWBAT_SNS, 40 AGND1, 41 PWR_PAD

## U-TPS79901 - 1.19 to 6.5V 200mA
designator U?, comment TPS79901-ADJ
Single Output LDO, 200mA, Adj. 1.193 to 6.5V; Part #: 102636-0001R; PartName: U - TPS79901-ADJ LDO; Mfr: TI; MfrNum: TPS79901DDC; TI Footprint: SOT-DDC; Cost10K: 0.3; Cost100: 0.58; VendorNum: 296-17776-1-ND; Vendor: Digikey
footprint SMT-DCQ
footprint sot23-20x60-5
pins: 1 VIN, 2 GND, 3 EN, 4 FB, 5 VOUT (power)

## USB-A connector
designator J?
USB Device Connector Right Angle PCB Mount; PartName: USB  Connector; Mfr: AMP; MfrNum: 787780-1; Part #: 101678-0001R; Vendor: Digikey; VendorNum: 787780-1-ND
footprint USB-B
footprint usb_a_sh
pins: 1 VBUS (out), 2 D- (io), 3 D+ (io), 4 GND (power), 5 S2 (power), 6 S1 (power)

## USBCONN3_0
designator J?, comment USB-micro/A/B connector
Part #: 102836-0001R
footprint usb_tripl-rev2
part A pins: 1AB VBUS, 2AB D- (io), 3AB D+ (io), 4AB ID, 5 SHIELD5, 5AB GND (power), 6 SHIELD6, 7 SHIELD7, 8 SHIELD8, 9 MH1, 10 MH2
part B pins: 1 SHIELD1, 1B ATTACH (out), 2 SHIELD2, 2B D- (io), 3B D+ (io), 4B GND (power)
part C pins: 1A VBUS-A, 2A D- (io), 3 SHIELD3, 3A D+ (io), 4 SHIELD4, 4A GND (power)